# Altium integrated library SmokeSensor_MQ7.IntLib: 1 symbol
Pins are listed as number, name and electrical type; pins without a type are passive.

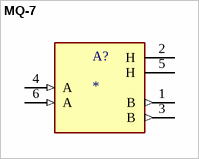
[diagram p0: symbol MQ-7]

## MQ-7
designator A?
Gas Sensor, High sensitivity to carbon monoxide; MP: MQ-7; MF: Hanwei Electronics Co., Ltd; Price: None; Availability: Unavailable; Package: Package; SnapEDA_Link: https://www.snapeda.com/parts/MQ-7/Hanwei%20Electronics%20Co.,%20Ltd/view-part/5661821/?ref=snap; Check_prices: https://www.snapeda.com/parts/MQ-7/Hanwei%20Electronics%20Co.,%20Ltd/view-part/5661821/?ref=eda; Value: *
footprint XDCR_MQ-7
pins: 1 B (out), 2 H (power), 3 B (out), 4 A (in), 5 H (power), 6 A (in)